# Altium schematic symbol library Hw_Prj_Sch.SchLib: 18 symbols
Pins are listed as number, name and electrical type; pins without a type are passive.

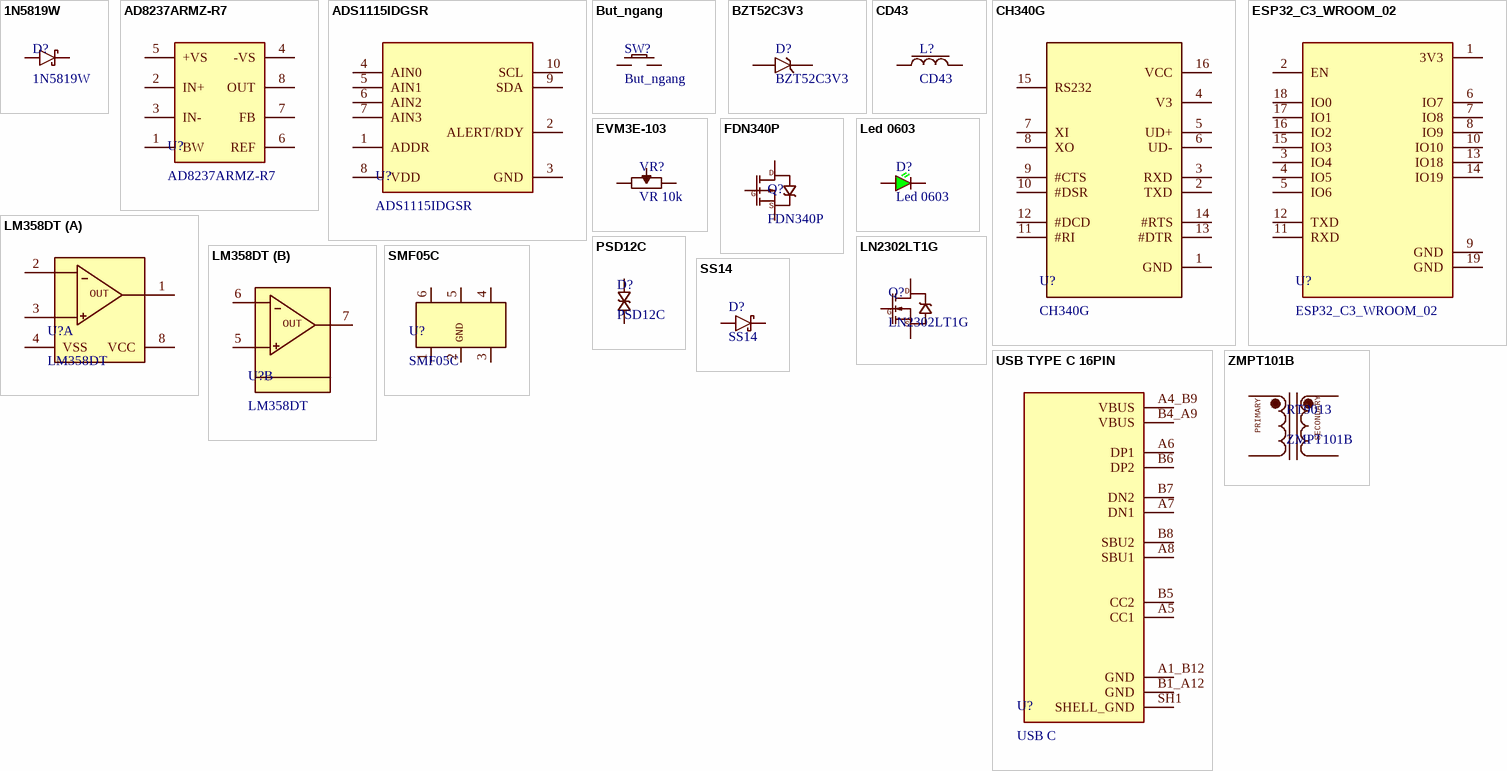
[diagram p0: symbols 1N5819W to ZMPT101B]

## 1N5819W
designator D?
https://www.thegioiic.com/1n5819w-diode-schottky-1a-40v-sod-123
footprint 1N5418W
pins: A 1, K 2

## AD8237ARMZ-R7
designator U?
Instrumentation Amplifier, 1 Func, 75uV Offset-Max, 0.2MHz Band Width, CMOS, PDSO8; Manufacturer: Analog Devices; Package Body Material: Plastic; Channels: 1; Package Equivalence Code: TSSOP8,.19; Power Supplies: 5V; Max Supply Current: 150uA; Qualification Status: Not Qualified; Supplier: Digikey; Supplier Part Number: AD8237ARMZ-R7CT-ND; Manufacturer Part Number: AD8237ARMZ-R7; RoHS: Yes; Category: Amplifiers - Op Amps, Buffer, Instrumentation; Stock: 5371; Pricing: 1=4.34, 10=2.871, 25=2.4888, 100=2.06, 250=1.8516, 500=1.72446 (USD); Case/Package: TSSOP; Pins: 8; Package Shape: Rectangular; Terminal Finish: Tin; Min Operating Temperature: -40°C; Max Operating Temperature: 125°C; JESD-609 Code: e3; Amplifier Type: INSTRUMENTATION AMPLIFIER; JESD-30 Code: R-PDSO-G8; Moisture Sensitivity Level: 1; Package Style: SMALL OUTLINE, THIN PROFILE, SHRINK PITCHMeter; Nominal Supply Voltage: 5V; Surface Mount: Yes; Technology: CMOS; Terminal Form: Gull Wing; Terminal Position: DUAL; Terminal Pitch: 0.635mm; Temperature Grade: AUTOMOTIVE; Reach SVHC Compliant: Yes; RoHS Compliant: Yes; ComponentLink1URL: https://datasheet.ciiva.com:443/pdfs/VipMasterIC/IC/ANDI/ANDIS13412/ANDIS13412-1.pdf?src-supplier=IHS+Markit; ComponentLink1Description: https://datasheet.ciiva.com:443/pdfs/VipMasterIC/IC/ANDI/ANDIS13412/ANDIS13412-1.pdf?src-supplier=IHS+Markit; ComponentLink2URL: https://datasheet.ciiva.com/6626/ad8237-6626733.pdf?src-supplier=Digikey; ComponentLink2Description: https://datasheet.ciiva.com/6626/ad8237-6626733.pdf?src-supplier=Digikey; ComponentLink3URL: https://datasheet.ciiva.com/8582/ad8237-8582303.pdf?src-supplier=Avnet; ComponentLink3Description: https://datasheet.ciiva.com/8582/ad8237-8582303.pdf?src-supplier=Avnet
footprint AD8237ARMZ-R7 (Instrumentation Amplifier 1 Circuit Rail-to-Rail 8-MSOP)
pins: 1 BW, 2 IN+, 3 IN-, 4 -VS, 5 +VS, 6 REF, 7 FB, 8 OUT

## ADS1115IDGSR
designator U?
ADC, Delta-Sigma, 16-Bit, 1 Func, 4 Channel, Serial Access, PDSO10; Manufacturer: Texas Instruments; Package Body Material: Plastic; Max Input Voltage (AC): 4.096V; Min Input Voltage (AC): -4.096V; Conversion Time-Max: 1.162us; Linearity Error-Max (EL): 0.0015%; Number of Analog In Channels: 4; Number of Bits: 16; Channels: 1; Output Bit Code: 2''S COMPLEMENT BINARY; Package Equivalence Code: TSSOP10,.19,20; Power Supplies: 3.3V; Sample Rate (Hz): 860kHz; Qualification Status: Not Qualified; Supplier: Digikey; Supplier Part Number: 296-38849-1-ND; Manufacturer Part Number: ADS1115IDGSR; RoHS: Yes; Category: Analog to Digital Converters (ADCs); Stock: 3443; Pricing: 1=4.96, 10=3.644, 25=3.3144, 100=2.952, 250=2.77904, 500=2.67478, 1000=2.58892 (USD); Case/Package: TSSOP; Pins: 10; Package Shape: Square; Terminal Finish: Nickel; Min Operating Temperature: -40°C; Max Operating Temperature: 125°C; JESD-609 Code: e4; Output Format: Serial; Converter Type: DELTA-SIGMA; JESD-30 Code: S-PDSO-G10; Moisture Sensitivity Level: 2; Package Style: SMALL OUTLINE, THIN PROFILE, SHRINK PITCHMeter; Peak Reflow Temperature (Cel): 260°C; Nominal Supply Voltage: 3.3V; Surface Mount: Yes; Terminal Form: Gull Wing; Terminal Position: DUAL; Length: 3mm; Width: 3mm; Height - Seated (Max): 1.1mm; Terminal Pitch: 0.5mm; Temperature Grade: AUTOMOTIVE; Reach SVHC Compliant: Yes; RoHS Compliant: Yes; ComponentLink1URL: https://www.ti.com:443/lit/ds/symlink/ads1113.pdf?src-supplier=IHS+Markit; ComponentLink1Description: https://www.ti.com:443/lit/ds/symlink/ads1113.pdf?src-supplier=IHS+Markit; ComponentLink2URL: https://datasheet.ciiva.com/4031/47725463s8438921n7713-4031028.pdf?src-supplier=Arrow+Electronics; ComponentLink2Description: https://datasheet.ciiva.com/4031/47725463s8438921n7713-4031028.pdf?src-supplier=Arrow+Electronics
footprint AD8237ARMZ-R7 (Instrumentation Amplifier 1 Circuit Rail-to-Rail 8-MSOP)
pins: 1 ADDR (oc), 2 ALERT/RDY (oc), 3 GND (oc), 4 AIN0 (oc), 5 AIN1 (oc), 6 AIN2 (oc), 7 AIN3 (oc), 8 VDD (oc), 9 SDA (oc), 10 SCL (oc)

## But_ngang
designator SW?
https://www.thegioiic.com/nut-nhan-3x6mm-cao-3-5mm-4-chan-smd-chinh-ngang
footprint But_ngang
pins: 1 10, 2 11

## BZT52C3V3
designator D?
https://thegioiic.com/bzt52c3v3-diode-zener-3-3v-500mw
footprint SOD-123F
pins: A, K

## CD43
designator L?
https://www.thegioiic.com/cuon-cam-dan-smd-cd43-4532-1r0-1uh-2-7a
footprint CD43
pins: 1 9, 2 10

## CH340G
designator U?
footprint CH340G
pins: 1 GND, 2 TXD, 3 RXD, 4 V3, 5 UD+, 6 UD-, 7 XI, 8 XO, 9 #CTS, 10 #DSR, 11 #RI, 12 #DCD, 13 #DTR, 14 #RTS, 15 RS232, 16 VCC

## ESP32_C3_WROOM_02
designator U?
Ultra-Low-Power SoC with RISC-V Single-Core CPU / 2.4 GHz Wi-Fi (802.11b/g/n) and Bluetooth® 5 (LE) / Optional 4 MB flash in the chip’s package / QFN32 (5×5 mm) package
footprint ESP32_C3
pins: 1 3V3 (oc), 2 EN (oc), 3 IO4 (oc), 4 IO5 (oc), 5 IO6 (oc), 6 IO7 (oc), 7 IO8 (oc), 8 IO9 (oc), 9 GND (oc), 10 IO10 (oc), 11 RXD (oc), 12 TXD (oc), 13 IO18 (oc), 14 IO19 (oc), 15 IO3 (oc), 16 IO2 (oc), 17 IO1 (oc), 18 IO0 (oc), 19 GND (oc)

## EVM3E-103
designator VR?, comment VR 10k
10K Ohm, 20%
footprint VR
pins: 1, 2, 3

## FDN340P
designator Q?
footprint FDN340P
pins: 1 3, 2, 3 4
text: D; G; S

## Led 0603
designator D?
footprint LED 0603
pins: 1, 2

## LM358DT
designator U?
Điện áp: 2V ~ 36V, ± 1V ~ 18V, Số chân: 8
footprint SOIC8
part A pins: 1, 2, 3, 4 VSS, 8 VCC
part B pins: 5 6, 6 2, 7 1
part A text: OUT
part B text: OUT

## LN2302LT1G
designator Q?
https://www.thegioiic.com/ln2302lt1g-mosfet-kenh-n-20v-2-3a-sot-23-3
footprint FDN340P
pins: 1 3, 2, 3 4
text: D; G; S

## PSD12C
designator D?
Package SOD323, Diode TVS, 50 pF, 29.5 V
footprint SOD-323
pins: A, C

## SMF05C
designator U?
https://www.thegioiic.com/products?search=smf05
footprint SOT-363
pins: 1 IN1, 2 GND, 3 IN2, 4 IN3, 5 IN4, 6 IN4

## SS14
designator D?
footprint SS14
pins: 1, 2

## USB TYPE C 16PIN
designator U?, comment USB C
https://www.thegioiic.com/cong-usb-cai-3-1-type-c-16-chan-thang-dan-smd
footprint USB C
pins: A1_B12 GND (oc), A4_B9 VBUS (oc), A5 CC1 (oc), A6 DP1 (oc), A7 DN1 (oc), A8 SBU1 (oc), B1_A12 GND (oc), B4_A9 VBUS (oc), B5 CC2 (oc), B6 DP2 (oc), B7 DN2 (oc), B8 SBU2 (oc), SH1 SHELL_GND (oc)

## ZMPT101B
designator RT9013
footprint ZMPT101B
pins: 1, 2, 3, 4
text: PRIMARY; SECONDARY